# EAGLE library part BMP280 (library CRD)
Sensor barométrico
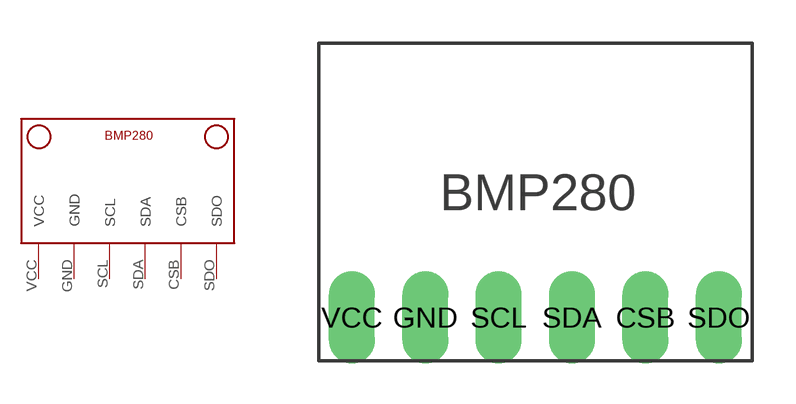
[diagram p1: symbol with the pads of BMP280_FOOTPRINT; footprint BMP280_FOOTPRINT]

Designator prefix -

## BMP280V1  [BMP280_FOOTPRINT]
CSB  CSB
GND  GND
SCL  SCL
SDA  SDA
SDO  SDO
VCC  VCC

## Footprint BMP280_FOOTPRINT (pad centres in mm)
drill 1.067 long: CSB 3.686,-6.12; GND -3.934,-6.12; SCL -1.395,-6.12; SDA 1.145,-6.12; SDO 6.226,-6.12; VCC -6.474,-6.12